# Altium footprint library CON1X6_prog.PcbLib: 1 footprints
Each footprint in its own frame and in the unit in brackets; x right, y up, seen from the top. Pads: shape width x height; smd on the part's side, far side on the other; paste and mask are expansions set on the pad; w line width, h text height; cw(c..) or ccw(c..) is an arc to the next point about the centre after c.
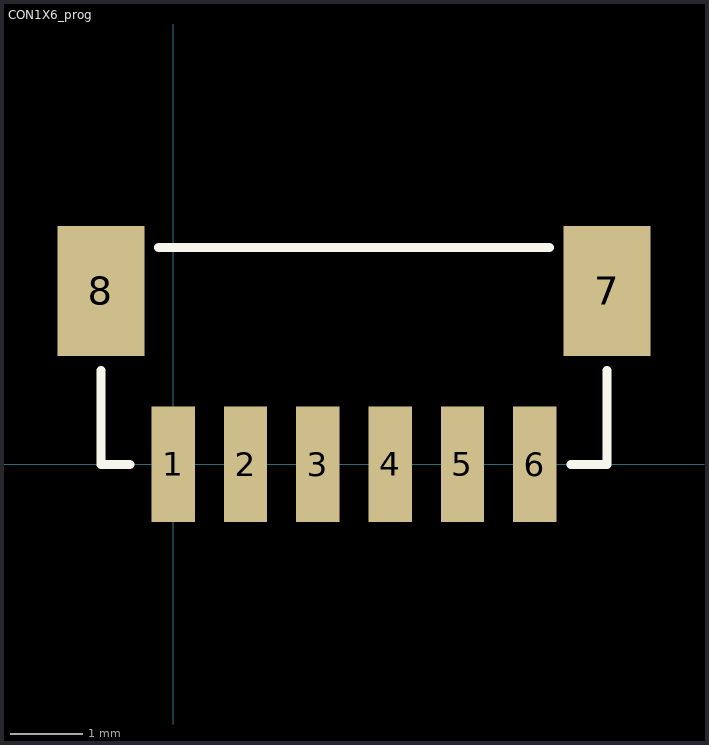
[diagram p0: the footprint, top view; thin cyan lines are the x and y axes]

## CON1X6_prog [mm]
pads (8):
  rect 0.6x1.6 smd: 1(0,0) 2(1,0) 3(2,0) 4(3,0) 5(4,0) 6(5,0)
  rect 1.2x1.8 smd: 7(6,2.4) 8(-1,2.4)
Top Overlay:
  lines w0.127: -1,1.3 -1,0 -0.6,0 ; -0.2,3 5.2,3 ; 5.5,0 6,0 6,1.3
3D body: height 4.25, standoff 0, extent -1.499,-0.513 6.501,3.087